# Altium footprint library SDTR-HX-20240126-V2.00.PcbLib: 53 footprints (part 1 of 4)
Each footprint in its own frame and in the unit in brackets; x right, y up, seen from the top. Pads: shape width x height; smd on the part's side, far side on the other; paste and mask are expansions set on the pad; w line width, h text height; cw(c..) or ccw(c..) is an arc to the next point about the centre after c.
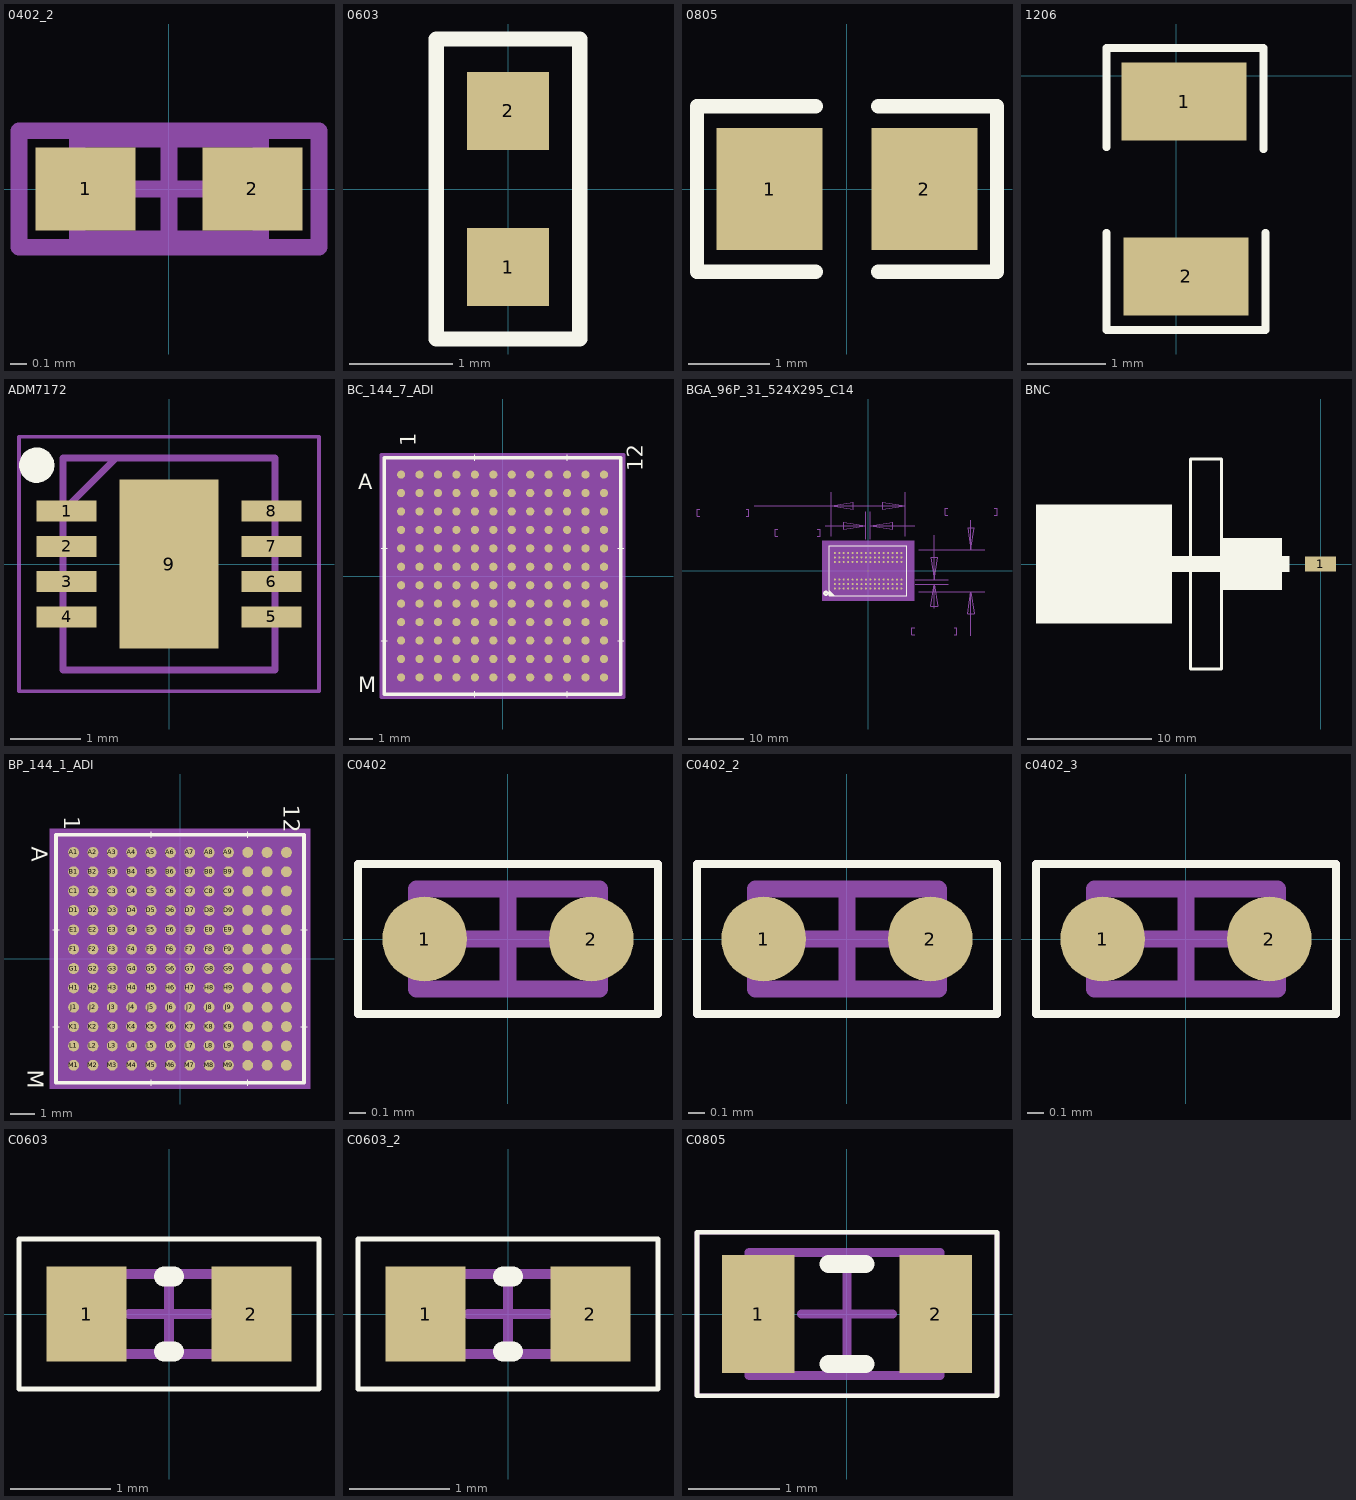
[diagram p0: the footprints below, top view; thin cyan lines are the x and y axes]

## 0402 [mm] "Chip Capacitor, Body 1.0x0.5mm, IPC High Density"
height 1.3

## 0402_2 [mm]
pads (2):
  rect 0.6x0.5 smd: 1(-0.5,0) 2(0.5,0)
Mechanical 13:
  lines w0.1: -0.55,-0.3 -0.55,0.3 0.55,0.3 0.55,-0.3 -0.55,-0.3
Mechanical 15:
  lines w0.1: -0.3,0 0.3,0 ; 0,-0.3 0,0.3 ; -0.9,-0.35 -0.9,0.35 0.9,0.35 0.9,-0.35 -0.9,-0.35
3D body: height 1.3, standoff 0, extent -0.55,-0.3 0.55,0.3

## 0603 [mm] "C0603"
pads (2):
  rect 0.8x0.76 smd: 1(0,-0.76) 2(0,0.76)
Top Overlay:
  lines w0.15: -0.7,-1.46 0.7,-1.46 0.7,1.46 -0.7,1.46 -0.7,-1.46
Mechanical 17:
  text ".Designator" at -1.905,1.397 h0.91

## 0805 [mm]
pads (2):
  rect 1.3x1.5 smd: 1(-0.95,0) 2(0.95,0)
Top Overlay:
  lines w0.178: -0.381,-1.019 -1.841,-1.019 -1.841,1.019 -0.381,1.019 ; 0.381,-1.019 1.842,-1.019 1.842,1.019 0.381,1.019

## 1206 [mm]
height 1.25
pads (2):
  rect 1.6x1 smd: 1(0.102,-0.33) 2(0.127,-2.565)
Top Overlay:
  lines w0.1: -0.889,-2.007 -0.889,-3.251 1.143,-3.251 1.143,-2.007 ; -0.889,-0.914 -0.889,0.356 1.118,0.356 1.118,-0.94

## ADM7172 [mm]
pads (9):
  rect 0.85x0.3 smd: 1(-1.45,0.75) 2(-1.45,0.25) 3(-1.45,-0.25) 4(-1.45,-0.75) 5(1.45,-0.75) 6(1.45,-0.25) 7(1.45,0.25) 8(1.45,0.75)
  rect 1.4x2.4 smd: 9(0,0)
Top Overlay:
  circle w0.25: c-1.875,1.4 r0.125
Mechanical 13:
  lines w0.1: -1.5,0.75 -0.75,1.5 ; -1.5,-1.5 -1.5,1.5 1.5,1.5 1.5,-1.5 -1.5,-1.5
Mechanical 15:
  lines w0.05: -2.125,-1.8 -2.125,1.8 2.125,1.8 2.125,-1.8 -2.125,-1.8
3D body "ADM7172ACPZ-3.3-R7.stp": height 0.8, standoff 0, extent -1.55,-1.5 1.55,1.5

## BC_144_7_ADI [mm]
pads (144):
  round 0.356 smd: A1(-4.4,4.4) A2(-3.6,4.4) A3(-2.8,4.4) A4(-2,4.4) A5(-1.2,4.4) A6(-0.4,4.4) A7(0.4,4.4) A8(1.2,4.4) A9(2,4.4) A10(2.8,4.4) A11(3.6,4.4) A12(4.4,4.4) B1(-4.4,3.6) B2(-3.6,3.6) B3(-2.8,3.6) B4(-2,3.6) B5(-1.2,3.6) B6(-0.4,3.6) B7(0.4,3.6) B8(1.2,3.6) B9(2,3.6) B10(2.8,3.6) B11(3.6,3.6) B12(4.4,3.6) C1(-4.4,2.8) C2(-3.6,2.8) C3(-2.8,2.8) C4(-2,2.8) C5(-1.2,2.8) C6(-0.4,2.8) C7(0.4,2.8) C8(1.2,2.8) C9(2,2.8) C10(2.8,2.8) C11(3.6,2.8) C12(4.4,2.8) D1(-4.4,2) D2(-3.6,2) D3(-2.8,2) D4(-2,2) D5(-1.2,2) D6(-0.4,2) D7(0.4,2) D8(1.2,2) D9(2,2) D10(2.8,2) D11(3.6,2) D12(4.4,2) E1(-4.4,1.2) E2(-3.6,1.2) E3(-2.8,1.2) E4(-2,1.2) E5(-1.2,1.2) E6(-0.4,1.2) E7(0.4,1.2) E8(1.2,1.2) E9(2,1.2) E10(2.8,1.2) E11(3.6,1.2) E12(4.4,1.2) F1(-4.4,0.4) F2(-3.6,0.4) F3(-2.8,0.4) F4(-2,0.4) F5(-1.2,0.4) F6(-0.4,0.4) F7(0.4,0.4) F8(1.2,0.4) F9(2,0.4) F10(2.8,0.4) F11(3.6,0.4) F12(4.4,0.4) G1(-4.4,-0.4) G2(-3.6,-0.4) G3(-2.8,-0.4) G4(-2,-0.4) G5(-1.2,-0.4) G6(-0.4,-0.4) G7(0.4,-0.4) G8(1.2,-0.4) G9(2,-0.4) G10(2.8,-0.4) G11(3.6,-0.4) G12(4.4,-0.4) H1(-4.4,-1.2) H2(-3.6,-1.2) H3(-2.8,-1.2) H4(-2,-1.2) H5(-1.2,-1.2) H6(-0.4,-1.2) H7(0.4,-1.2) H8(1.2,-1.2) H9(2,-1.2) H10(2.8,-1.2) H11(3.6,-1.2) H12(4.4,-1.2) J1(-4.4,-2) J2(-3.6,-2) J3(-2.8,-2) J4(-2,-2) J5(-1.2,-2) J6(-0.4,-2) J7(0.4,-2) J8(1.2,-2) J9(2,-2) J10(2.8,-2) J11(3.6,-2) J12(4.4,-2) K1(-4.4,-2.8) K2(-3.6,-2.8) K3(-2.8,-2.8) K4(-2,-2.8) K5(-1.2,-2.8) K6(-0.4,-2.8) K7(0.4,-2.8) K8(1.2,-2.8) K9(2,-2.8) K10(2.8,-2.8) K11(3.6,-2.8) K12(4.4,-2.8) L1(-4.4,-3.6) L2(-3.6,-3.6) L3(-2.8,-3.6) L4(-2,-3.6) L5(-1.2,-3.6) L6(-0.4,-3.6) L7(0.4,-3.6) L8(1.2,-3.6) L9(2,-3.6) L10(2.8,-3.6) L11(3.6,-3.6) L12(4.4,-3.6) M1(-4.4,-4.4) M2(-3.6,-4.4) M3(-2.8,-4.4) M4(-2,-4.4) M5(-1.2,-4.4) M6(-0.4,-4.4) M7(0.4,-4.4) M8(1.2,-4.4) M9(2,-4.4) M10(2.8,-4.4) M11(3.6,-4.4) M12(4.4,-4.4)
Top Overlay:
  lines w0.025: -5.254,-2.8 -5,-2.8 ; -5.254,1.2 -5,1.2 ; -1.2,-5.254 -1.2,-5 ; -1.2,5 -1.2,5.254 ; 2.8,-5.254 2.8,-5 ; 2.8,5 2.8,5.254 ; 5,-2.8 5.254,-2.8 ; 5,1.2 5.254,1.2
  lines w0.152: -5.127,-5.127 -5.127,5.127 5.127,5.127 5.127,-5.127 -5.127,-5.127
  text "12" at 6.084,4.539 h0.66
  text "1" at -3.765,5.635 h0.66
  text "M" at -6.27,-5.035 h0.66
  text "A" at -6.27,3.765 h0.66
Bottom Overlay:
  text "12" at 4.981,5.722 h0.66
  text "1" at -5.035,5.635 h0.66
  text "M" at -5.635,-5.035 h0.66
  text "A" at -5.635,3.765 h0.66
Mechanical 13:
  lines w0.025: -5,4.6 -4.6,5 ; -5,-5 -5,5 5,5 5,-5 -5,-5
  text "12" at 5.035,5.635 h0.66
  text "1" at -3.765,5.635 h0.66
  text "M" at -6.27,-5.035 h0.66
  text "A" at -6.27,3.765 h0.66
Mechanical 15:
  region: 5.254,-5.254 -5.254,-5.254 -5.254,5.254 5.254,5.254
  lines w0.152: -5.254,-5.254 5.254,-5.254 5.254,5.254 -5.254,5.254 -5.254,-5.254
3D body "BC_144_7_ADI.step": height 1.7, standoff 0, extent -5,-5 5,5

## BGA_96P_31_524X295_C14 [mil] "BGA_96P_31_524X295_C14"
pads (96):
  round 14 smd: A1(-236.22,-125.98) A2(-236.22,-94.49) A3(-236.22,-62.99) A7(-236.22,62.99) A8(-236.22,94.49) A9(-236.22,125.98) B1(-204.72,-125.98) B2(-204.72,-94.49) B3(-204.72,-62.99) B7(-204.72,62.99) B8(-204.72,94.49) B9(-204.72,125.98) C1(-173.23,-125.98) C2(-173.23,-94.49) C3(-173.23,-62.99) C7(-173.23,62.99) C8(-173.23,94.49) C9(-173.23,125.98) D1(-141.73,-125.98) D2(-141.73,-94.49) D3(-141.73,-62.99) D7(-141.73,62.99) D8(-141.73,94.49) D9(-141.73,125.98) E1(-110.24,-125.98) E2(-110.24,-94.49) E3(-110.24,-62.99) E7(-110.24,62.99) E8(-110.24,94.49) E9(-110.24,125.98) F1(-78.74,-125.98) F2(-78.74,-94.49) F3(-78.74,-62.99) F7(-78.74,62.99) F8(-78.74,94.49) F9(-78.74,125.98) G1(-47.24,-125.98) G2(-47.24,-94.49) G3(-47.24,-62.99) G7(-47.24,62.99) G8(-47.24,94.49) G9(-47.24,125.98) H1(-15.75,-125.98) H2(-15.75,-94.49) H3(-15.75,-62.99) H7(-15.75,62.99) H8(-15.75,94.49) H9(-15.75,125.98) J1(15.75,-125.98) J2(15.75,-94.49) J3(15.75,-62.99) J7(15.75,62.99) J8(15.75,94.49) J9(15.75,125.98) K1(47.24,-125.98) K2(47.24,-94.49) K3(47.24,-62.99) K7(47.24,62.99) K8(47.24,94.49) K9(47.24,125.98) L1(78.74,-125.98) L2(78.74,-94.49) L3(78.74,-62.99) L7(78.74,62.99) L8(78.74,94.49) L9(78.74,125.98) M1(110.24,-125.98) M2(110.24,-94.49) M3(110.24,-62.99) M7(110.24,62.99) M8(110.24,94.49) M9(110.24,125.98) N1(141.73,-125.98) N2(141.73,-94.49) N3(141.73,-62.99) N7(141.73,62.99) N8(141.73,94.49) N9(141.73,125.98) P1(173.23,-125.98) P2(173.23,-94.49) P3(173.23,-62.99) P7(173.23,62.99) P8(173.23,94.49) P9(173.23,125.98) R1(204.72,-125.98) R2(204.72,-94.49) R3(204.72,-62.99) R7(204.72,62.99) R8(204.72,94.49) R9(204.72,125.98) T1(236.22,-125.98) T2(236.22,-94.49) T3(236.22,-62.99) T7(236.22,62.99) T8(236.22,94.49) T9(236.22,125.98)
Top Overlay:
  circle w15: c-300,-160 r11.18
  lines w3.94: -275.98,-142.52 -275.2,-142.52 -241.73,-175.98 -248.82,-175.98 -275.2,-149.61 -275.2,-156.3 -255.12,-176.38 -261.42,-176.38 -274.41,-163.39 -274.41,-170.08 -268.11,-176.38
  lines w5: -275.59,-177.16 275.59,-177.16 275.59,177.16 -275.59,177.16 -275.59,-177.16
Mechanical 1:
  lines w1: -261.81,-147.64 261.81,-147.64 261.81,147.64 -261.81,147.64 -261.81,-147.64
Mechanical 5:
  circle w15: c-300,-160 r11.18
  lines w3.94: -275.98,-142.52 -275.2,-142.52 -241.73,-175.98 -248.82,-175.98 -275.2,-149.61 -275.2,-156.3 -255.12,-176.38 -261.42,-176.38 -274.41,-163.39 -274.41,-170.08 -268.11,-176.38 ; -275.59,-177.16 275.59,-177.16 275.59,177.16 -275.59,177.16 -275.59,-177.16
  text "U4" at -362.51,27.5 h25
Mechanical 13:
  lines w1: -1195.67,385.04 -1214.57,385.04 -1214.57,435.04 -1195.67,435.04 ; -864.57,385.04 -845.67,385.04 -845.67,435.04 -864.57,435.04 ; -807.87,459.84 -261.81,459.84 ; -640.16,244.88 -659.06,244.88 -659.06,294.88 -640.16,294.88 ; -359.84,244.88 -340.94,244.88 -340.94,294.88 -359.84,294.88 ; -303.54,320.08 -15.75,320.08 ; -261.81,246.06 -261.81,558.27 ; -15.75,224.41 -15.75,418.5 ; 15.75,224.41 15.75,418.5 ; 261.81,246.06 261.81,558.27 ; 329.92,-455.12 311.02,-455.12 311.02,-405.12 329.92,-405.12 ; 330.71,320.08 15.75,320.08 ; 334.65,-94.49 568.5,-94.49 ; 334.65,-62.99 568.5,-62.99 ; 360.24,-147.64 828.35,-147.64 ; 360.24,147.64 828.35,147.64 ; 470.08,-267.32 470.08,-94.49 ; 470.08,251.97 470.08,-62.99 ; 564.57,394.88 545.67,394.88 545.67,444.88 564.57,444.88 ; 609.84,-455.12 629.13,-455.12 629.13,-405.12 609.84,-405.12 ; 729.92,-462.6 729.92,-147.64 ; 729.92,357.48 729.92,147.64 ; 895.67,394.88 914.57,394.88 914.57,444.88 895.67,444.88 ; -261.81,459.84 -104.33,484.65 -104.33,435.43 -261.81,459.84 ; -261.81,459.84 261.81,459.84 ; -15.75,320.08 -173.23,295.28 -173.23,344.49 -15.75,320.08 ; 15.75,320.08 173.23,344.49 173.23,295.28 15.75,320.08 ; 261.81,459.84 104.33,435.43 104.33,484.65 261.81,459.84 ; 470.08,-94.49 494.49,-251.97 445.28,-251.97 470.08,-94.49 ; 470.08,-62.99 445.28,94.49 494.49,94.49 470.08,-62.99 ; 729.92,-147.64 754.72,-305.12 705.51,-305.12 729.92,-147.64 ; 729.92,147.64 705.51,305.12 754.72,305.12 729.92,147.64
  text "0.8" at -570.08,344.88 h50
  text "31.50" at -620.87,244.88 h50
  text "0.8" at 400,-355.12 h50
  text "31.50" at 348.82,-455.12 h50
  text "13.3" at -1125.59,485.04 h50
  text "523.62" at -1176.38,385.04 h50
  text "7.5" at 659.84,494.88 h50
  text "295.28" at 583.46,394.88 h50
Mechanical 14:
  text "R1" at 204.72,-105.82 h25.2
  text "R9" at 204.72,146.14 h25.2
  text "F1" at -78.74,-105.82 h25.2
  text "D2" at -141.73,-74.33 h25.2
  text "A1" at -236.22,-105.82 h25.2
  text "B2" at -204.72,-74.33 h25.2
  text "C1" at -173.23,-105.82 h25.2
  text "H2" at -15.75,-74.33 h25.2
  text "K8" at 47.24,114.65 h25.2
  text "E9" at -110.24,146.14 h25.2
  text "D9" at -141.73,146.14 h25.2
  text "C9" at -173.23,146.14 h25.2
  text "A8" at -236.22,114.65 h25.2
  text "G7" at -47.24,83.15 h25.2
  text "H9" at -15.75,146.14 h25.2
  text "K2" at 47.24,-74.33 h25.2
  text "N1" at 141.73,-105.82 h25.2
  text "N9" at 141.73,146.14 h25.2
  text "H1" at -15.75,-105.82 h25.2
  text "M8" at 110.24,114.65 h25.2
  text "D3" at -141.73,-42.83 h25.2
  text "E7" at -110.24,83.15 h25.2
  text "M2" at 110.24,-74.33 h25.2
  text "K9" at 47.24,146.14 h25.2
  text "K3" at 47.24,-42.83 h25.2
  text "J7" at 15.75,83.15 h25.2
  text "K7" at 47.24,83.15 h25.2
  text "J3" at 15.75,-42.83 h25.2
  text "L3" at 78.74,-42.83 h25.2
  text "M3" at 110.24,-42.83 h25.2
  text "L2" at 78.74,-74.33 h25.2
  text "N8" at 141.73,114.65 h25.2
  text "L8" at 78.74,114.65 h25.2
  text "C7" at -173.23,83.15 h25.2
  text "G3" at -47.24,-42.83 h25.2
  text "K1" at 47.24,-105.82 h25.2
  text "T7" at 236.22,83.15 h25.2
  text "R2" at 204.72,-74.33 h25.2
  text "R7" at 204.72,83.15 h25.2
  text "L7" at 78.74,83.15 h25.2
  text "H8" at -15.75,114.65 h25.2
  text "B8" at -204.72,114.65 h25.2
  text "T2" at 236.22,-74.33 h25.2
  text "P3" at 173.23,-42.83 h25.2
  text "C8" at -173.23,114.65 h25.2
  text "F2" at -78.74,-74.33 h25.2
  text "N3" at 141.73,-42.83 h25.2
  text "R8" at 204.72,114.65 h25.2
  text "H7" at -15.75,83.15 h25.2
  text "A2" at -236.22,-74.33 h25.2
  text "G2" at -47.24,-74.33 h25.2
  text "N2" at 141.73,-74.33 h25.2
  text "C2" at -173.23,-74.33 h25.2
  text "T3" at 236.22,-42.83 h25.2
  text "P7" at 173.23,83.15 h25.2
  text "T8" at 236.22,114.65 h25.2
  text "D7" at -141.73,83.15 h25.2
  text "C3" at -173.23,-42.83 h25.2
  text "M7" at 110.24,83.15 h25.2
  text "F7" at -78.74,83.15 h25.2
  text "N7" at 141.73,83.15 h25.2
  text "R3" at 204.72,-42.83 h25.2
  text "F8" at -78.74,114.65 h25.2
  text "A7" at -236.22,83.15 h25.2
  text "A3" at -236.22,-42.83 h25.2
  text "E3" at -110.24,-42.83 h25.2
  text "P2" at 173.23,-74.33 h25.2
  text "H3" at -15.75,-42.83 h25.2
  text "P8" at 173.23,114.65 h25.2
  text "F3" at -78.74,-42.83 h25.2
  text "B7" at -204.72,83.15 h25.2
  text "J1" at 15.75,-105.82 h25.2
  text "J9" at 15.75,146.14 h25.2
  text "L1" at 78.74,-105.82 h25.2
  text "L9" at 78.74,146.14 h25.2
  text "B1" at -204.72,-105.82 h25.2
  text "D1" at -141.73,-105.82 h25.2
  text "E2" at -110.24,-74.33 h25.2
  text "E1" at -110.24,-105.82 h25.2
  text "G1" at -47.24,-105.82 h25.2
  text "D8" at -141.73,114.65 h25.2
  text "E8" at -110.24,114.65 h25.2
  text "F9" at -78.74,146.14 h25.2
  text "G9" at -47.24,146.14 h25.2
  text "G8" at -47.24,114.65 h25.2
  text "B3" at -204.72,-42.83 h25.2
  text "B9" at -204.72,146.14 h25.2
  text "A9" at -236.22,146.14 h25.2
  text "J2" at 15.75,-74.33 h25.2
  text "M1" at 110.24,-105.82 h25.2
  text "P1" at 173.23,-105.82 h25.2
  text "T1" at 236.22,-105.82 h25.2
  text "J8" at 15.75,114.65 h25.2
  text "M9" at 110.24,146.14 h25.2
  text "P9" at 173.23,146.14 h25.2
  text "T9" at 236.22,146.14 h25.2
Mechanical 16:
  pour cut-out: -325.98,-211.81 325.98,-211.81 325.98,211.81 -325.98,211.81
3D body: height 150, standoff 0, extent -285,-185 285,185

## BNC [mm]
pads (1):
  rect 2.5x1.25 smd: 1(0,0)
Top Overlay:
  rectangle: -8.127,-2.1 -3.127,2.1
  region: -12,-4.8 -12,4.8 -23,4.8 -23,-4.8
  region: -2.5,0.635 -23,0.635 -23,-0.635 -2.5,-0.635
  lines w0.254: -10.5,-8.5 -8,-8.5 -8,8.5 -10.5,8.5 -10.5,-8.5

## BP_144_1_ADI [mm]
pads (144):
  round 0.45 smd: A1(-4.4,4.4) A2(-3.6,4.4) A3(-2.8,4.4) A4(-2,4.4) A5(-1.2,4.4) A6(-0.4,4.4) A7(0.4,4.4) A8(1.2,4.4) A9(2,4.4) A10(2.8,4.4) A11(3.6,4.4) A12(4.4,4.4) B1(-4.4,3.6) B2(-3.6,3.6) B3(-2.8,3.6) B4(-2,3.6) B5(-1.2,3.6) B6(-0.4,3.6) B7(0.4,3.6) B8(1.2,3.6) B9(2,3.6) B10(2.8,3.6) B11(3.6,3.6) B12(4.4,3.6) C1(-4.4,2.8) C2(-3.6,2.8) C3(-2.8,2.8) C4(-2,2.8) C5(-1.2,2.8) C6(-0.4,2.8) C7(0.4,2.8) C8(1.2,2.8) C9(2,2.8) C10(2.8,2.8) C11(3.6,2.8) C12(4.4,2.8) D1(-4.4,2) D2(-3.6,2) D3(-2.8,2) D4(-2,2) D5(-1.2,2) D6(-0.4,2) D7(0.4,2) D8(1.2,2) D9(2,2) D10(2.8,2) D11(3.6,2) D12(4.4,2) E1(-4.4,1.2) E2(-3.6,1.2) E3(-2.8,1.2) E4(-2,1.2) E5(-1.2,1.2) E6(-0.4,1.2) E7(0.4,1.2) E8(1.2,1.2) E9(2,1.2) E10(2.8,1.2) E11(3.6,1.2) E12(4.4,1.2) F1(-4.4,0.4) F2(-3.6,0.4) F3(-2.8,0.4) F4(-2,0.4) F5(-1.2,0.4) F6(-0.4,0.4) F7(0.4,0.4) F8(1.2,0.4) F9(2,0.4) F10(2.8,0.4) F11(3.6,0.4) F12(4.4,0.4) G1(-4.4,-0.4) G2(-3.6,-0.4) G3(-2.8,-0.4) G4(-2,-0.4) G5(-1.2,-0.4) G6(-0.4,-0.4) G7(0.4,-0.4) G8(1.2,-0.4) G9(2,-0.4) G10(2.8,-0.4) G11(3.6,-0.4) G12(4.4,-0.4) H1(-4.4,-1.2) H2(-3.6,-1.2) H3(-2.8,-1.2) H4(-2,-1.2) H5(-1.2,-1.2) H6(-0.4,-1.2) H7(0.4,-1.2) H8(1.2,-1.2) H9(2,-1.2) H10(2.8,-1.2) H11(3.6,-1.2) H12(4.4,-1.2) J1(-4.4,-2) J2(-3.6,-2) J3(-2.8,-2) J4(-2,-2) J5(-1.2,-2) J6(-0.4,-2) J7(0.4,-2) J8(1.2,-2) J9(2,-2) J10(2.8,-2) J11(3.6,-2) J12(4.4,-2) K1(-4.4,-2.8) K2(-3.6,-2.8) K3(-2.8,-2.8) K4(-2,-2.8) K5(-1.2,-2.8) K6(-0.4,-2.8) K7(0.4,-2.8) K8(1.2,-2.8) K9(2,-2.8) K10(2.8,-2.8) K11(3.6,-2.8) K12(4.4,-2.8) L1(-4.4,-3.6) L2(-3.6,-3.6) L3(-2.8,-3.6) L4(-2,-3.6) L5(-1.2,-3.6) L6(-0.4,-3.6) L7(0.4,-3.6) L8(1.2,-3.6) L9(2,-3.6) L10(2.8,-3.6) L11(3.6,-3.6) L12(4.4,-3.6) M1(-4.4,-4.4) M2(-3.6,-4.4) M3(-2.8,-4.4) M4(-2,-4.4) M5(-1.2,-4.4) M6(-0.4,-4.4) M7(0.4,-4.4) M8(1.2,-4.4) M9(2,-4.4) M10(2.8,-4.4) M11(3.6,-4.4) M12(4.4,-4.4)
Top Overlay:
  lines w0.025: -5.254,-2.8 -5,-2.8 ; -5.254,1.2 -5,1.2 ; -1.2,-5.254 -1.2,-5 ; -1.2,5 -1.2,5.254 ; 2.8,-5.254 2.8,-5 ; 2.8,5 2.8,5.254 ; 5,-2.8 5.254,-2.8 ; 5,1.2 5.254,1.2
  lines w0.152: -5.127,-5.127 5.127,-5.127 5.127,5.127 -5.127,5.127 -5.127,-5.127
  text "A" at -6.122,4.634 h0.66
  text "M" at -6.293,-4.59 h0.66
  text "1" at -4.784,5.884 h0.66
  text "12" at 4.289,6.36 h0.66
Bottom Overlay:
  text "A" at -5.741,5.269 h0.66
  text "M" at -5.635,-5.035 h0.66
  text "1" at -5.035,5.635 h0.66
  text "12" at 4.349,5.72 h0.66
Mechanical 5:
  region: 5.381,-5.381 -5.381,-5.381 -5.381,5.381 5.381,5.381
Mechanical 13:
  lines w0.025: -5,4.6 -4.6,5 ; -5,-5 5,-5 5,5 -5,5 -5,-5
  text "A" at -6.27,3.765 h0.66
  text "M" at -6.27,-5.035 h0.66
  text "1" at -3.765,5.635 h0.66
  text "12" at 5.035,5.635 h0.66
Mechanical 15:
  region: 5.254,-5.254 -5.254,-5.254 -5.254,5.254 5.254,5.254
  lines w0.152: -5.254,-5.254 -5.254,5.254 5.254,5.254 5.254,-5.254 -5.254,-5.254
3D body: height 0.25, standoff 0, extent 0,0 0.254,0.254

## C0402 [mil]
height 11.81
pads (2):
  round 20 smd: 1(-19.68,0) 2(19.68,0)
Top Overlay:
  lines w1.97: -35.43,-17.72 -35.43,17.72 35.43,17.72 35.43,-17.72 -35.43,-17.72
Mechanical 13:
  lines w3.94: -21.65,-11.81 21.65,-11.81 21.65,11.81 -21.65,11.81 -21.65,-11.81
Mechanical 15:
  lines w1.97: -35.43,-17.72 -35.43,17.72 35.43,17.72 35.43,-17.72 -35.43,-17.72
  lines w3.94: -9.84,0 9.84,0 ; 0,-9.84 0,9.84
3D body "C 0402.STEP": height 20.68, standoff 0.21, extent -19.68,-10.23 19.69,10.24

## C0402_2 [mil]
pads (2):
  round 20 smd: 1(-19.68,0) 2(19.68,0)
Top Overlay:
  lines w1.97: -35.43,-17.72 35.43,-17.72 35.43,17.72 -35.43,17.72 -35.43,-17.72
Mechanical 13:
  lines w3.94: -21.65,-11.81 -21.65,11.81 21.65,11.81 21.65,-11.81 -21.65,-11.81
Mechanical 15:
  lines w1.97: -35.43,-17.72 35.43,-17.72 35.43,17.72 -35.43,17.72 -35.43,-17.72
  lines w3.94: -9.84,0 9.84,0 ; 0,-9.84 0,9.84
3D body "C 0402.STEP": height 20.68, standoff 0.21, extent -19.68,-10.23 19.69,10.24

## c0402_3 [mil]
pads (2):
  round 20 smd: 1(-19.68,0) 2(19.68,0)
Top Overlay:
  lines w1.97: -35.43,-17.72 -35.43,17.72 35.43,17.72 35.43,-17.72 -35.43,-17.72
Mechanical 13:
  lines w3.94: -21.65,-11.81 21.65,-11.81 21.65,11.81 -21.65,11.81 -21.65,-11.81
Mechanical 15:
  lines w1.97: -35.43,-17.72 -35.43,17.72 35.43,17.72 35.43,-17.72 -35.43,-17.72
  lines w3.94: -9.84,0 9.84,0 ; 0,-9.84 0,9.84
3D body "C 0402.STEP": height 20.68, standoff 0.21, extent -19.68,-10.23 19.69,10.24

## C0603 [mm]
height 1.2
pads (2):
  rect 0.8x0.95 smd: 1(-0.825,0) 2(0.825,0)
Top Overlay:
  lines w0.05: -1.5,-0.75 1.5,-0.75 1.5,0.75 -1.5,0.75 -1.5,-0.75
  lines w0.2: -0.05,-0.375 0.05,-0.375 ; -0.05,0.375 0.05,0.375
Mechanical 13:
  lines w0.1: -0.8,-0.4 0.8,-0.4 0.8,0.4 -0.8,0.4 -0.8,-0.4
Mechanical 15:
  lines w0.1: -0.4,0 0.4,0 ; 0,-0.4 0,0.4
3D body "C 0603.STEP": height 0.81, standoff -0.01, extent -0.8,-0.41 0.8,0.41

## C0603_2 [mm]
pads (2):
  rect 0.8x0.95 smd: 1(-0.825,0) 2(0.825,0)
Top Overlay:
  lines w0.05: -1.5,-0.75 -1.5,0.75 1.5,0.75 1.5,-0.75 -1.5,-0.75
  lines w0.2: -0.05,-0.375 0.05,-0.375 ; -0.05,0.375 0.05,0.375
Mechanical 13:
  lines w0.1: -0.8,-0.4 -0.8,0.4 0.8,0.4 0.8,-0.4 -0.8,-0.4
Mechanical 15:
  lines w0.1: -0.4,0 0.4,0 ; 0,-0.4 0,0.4
3D body "C 0603.STEP": height 0.81, standoff -0.01, extent -0.8,-0.41 0.8,0.41

## C0805 [mm]
height 0.5
pads (2):
  rect 0.8x1.3 smd: 1(-0.975,0) 2(0.975,0)
Top Overlay:
  lines w0.05: -1.65,-0.9 1.65,-0.9 1.65,0.9 -1.65,0.9 -1.65,-0.9
  lines w0.2: -0.2,-0.55 0.2,-0.55 ; -0.2,0.55 0.2,0.55
Mechanical 13:
  lines w0.1: -1.075,-0.675 -1.075,0.675 1.025,0.675 1.025,-0.675 -1.075,-0.675
Mechanical 15:
  lines w0.05: -1.65,-0.9 1.65,-0.9 1.65,0.9 -1.65,0.9 -1.65,-0.9
  lines w0.1: -0.5,0 0.5,0 ; 0,-0.5 0,0.5
3D body "C 0805.STEP": height 0.51, standoff -0.01, extent -1,-0.61 1,0.61